# Altium footprint library C-M001-32_V1.0.PcbLib: 20 footprints (part 2 of 2)
Each footprint in its own frame and in the unit in brackets; x right, y up, seen from the top. Pads: shape width x height; smd on the part's side, far side on the other; paste and mask are expansions set on the pad; w line width, h text height; cw(c..) or ccw(c..) is an arc to the next point about the centre after c.
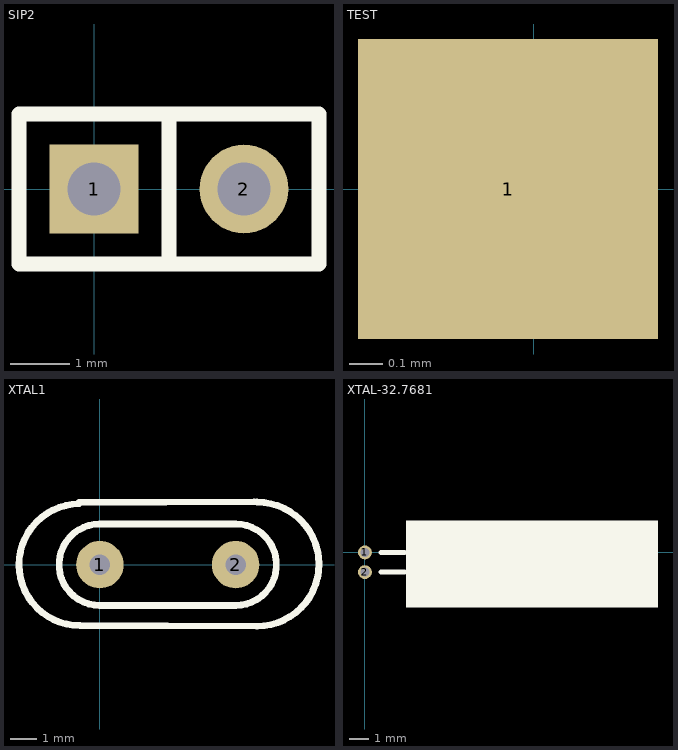
[diagram p1: the footprints below, top view; thin cyan lines are the x and y axes]

## SIP2 [mm]
pads (2):
  rect 1.5x1.5 hole 0.9: 1(0,0)
  round 1.5 hole 0.9: 2(2.54,0)
Top Overlay:
  lines w0.254: 1.27,-1.25 1.27,1.27 ; -1.27,-1.27 3.81,-1.27 3.81,1.27 -1.27,1.27 -1.27,-1.27

## TEST [mil]
pads (1):
  rect 35x35 smd: 1(-3,0)

## XTAL1 [mil]
pads (2):
  round 70 hole 30: 1(0,0) 2(200,0)
Top Overlay:
  lines w10: -30.51,89.57 ccw(c-29.41,-0.06) -29.41,-89.69 231.31,-90.67 ccw(c231.31,0.73) 231.31,92.13 ; -30.51,91.54 227.37,92.64 ; 0,-60 cw(c0,0) 0,60 200,60 cw(c200,0) 200,-60 0,-60

## XTAL-32.7681 [mm]
pads (2):
  round 0.7 hole 0.45: 1(0,0) 2(0,-1)
Top Overlay:
  rectangle: 2.075,-2.8 14.85,1.625
  lines w0.254: 0.813,-1 2.007,-1 ; 0.813,0 2.007,0